# EAGLE library part SWITCH_DPDT (library StevenV1)
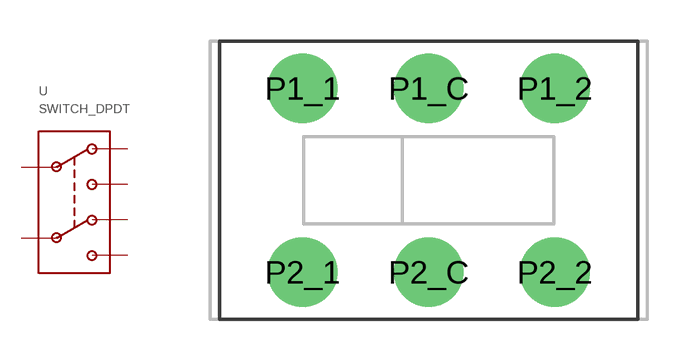
[diagram p12: symbol with the pads of SWITCH_GF-126; footprint SWITCH_GF-126]

Designator prefix -

## SWITCH_DPDT  [SWITCH_GF-126]
P1_1  P1_1
P1_2  P1_2
P1_C  P1_C
P2_1  P2_1
P2_2  P2_2
P2_C  P2_C

## Footprint SWITCH_GF-126 (pad centres in mm)
drill 1.65 pad 2.54: P1_1 -4.6,3.355; P1_2 4.6,3.355; P1_C 0,3.355; P2_1 -4.6,-3.355; P2_2 4.6,-3.355; P2_C 0,-3.355